# EAGLE library part POE70P-50LD (library POE70P-50LD)
Audio Transformers / Signal Transformers POE70P Flyback 7uH 5.0 V 1.4 A Source: Datasheet <https://componentsearchengine.com/Datasheets/1/POE70P-50LD.pdf>
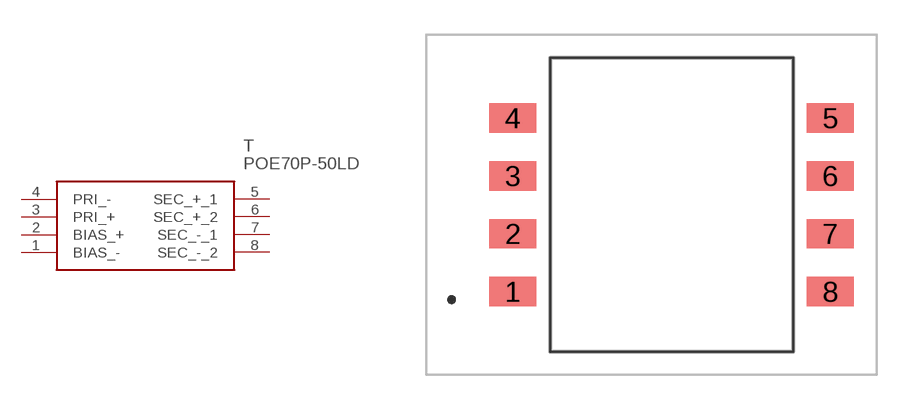
[diagram p0: symbol with the pads of POE70P50LD; footprint POE70P50LD]

Designator prefix T

## POE70P-50LD (Description: Audio Transformers / Signal Transformers POE70P Flyback 7uH 5.0 V 1.4 A; Height: 11mm; Manufacturer_Name: COILCRAFT; Manufacturer_Part_Number: POE70P-50LD; Mouser_Part_Number: 994-POE70P-50LD; Mouser_Price-Stock: https://www.mouser.co.uk/ProductDetail/Coilcraft/POE70P-50LD?qs=ZYnrCdKdyeed5KiTZWBt9w%3D%3D)  [POE70P50LD]
1  BIAS_-
2  BIAS_+
3  PRI_+
4  PRI_-
5  SEC_+_1
6  SEC_+_2
7  SEC_-_1
8  SEC_-_2

## Footprint POE70P50LD (pad centres in mm)
POE70P-50LD-1
smd 2.03 x 1.27: 1 -6.855,-3.75; 2 -6.855,-1.25; 3 -6.855,1.25; 4 -6.855,3.75; 5 6.855,3.75; 6 6.855,1.25; 7 6.855,-1.25; 8 6.855,-3.75